# EAGLE library part WE-MCA_7488910235 (library wurth_elektronik_passive_rev16d)
Multilayer Chip Antenna Characteristics SMD Multilayer Chip Antenna Extremely low profile Very light component Power capacity: 5 W max. Omni-directional Operating temperature: –40 °C to +85 °C High gain Applications applications WLAN Home RF (868 MHz) Bluetooth applications GSM 900 ISM 868/2400 <http://katalog.we-online.de/media/images/eisos/RfMCA_pf2.jpg> Details see: http://katalog.we-online.de/en/pbs/WE-MCA? Updated by Dan Xu 2014-07-08 2014 (C) Wurth Elektronik
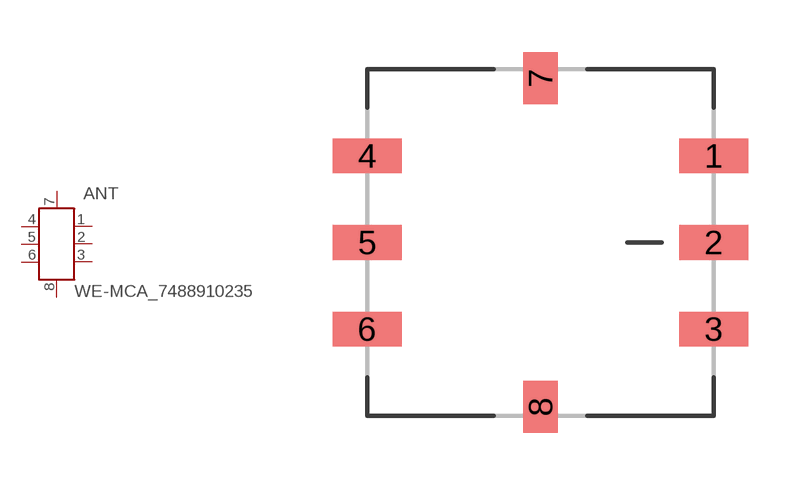
[diagram p17: symbol with the pads of WE-MCA_7488910235; footprint WE-MCA_7488910235]

Designator prefix ANT

## WE-MCA_7488910235_7488910235  [WE-MCA_7488910235]
1  GND  pwr
2  NC  nc
3  GND  pwr
4  GND  pwr
5  NC  nc
6  GND  pwr
7  IN  in
8  OUT  out

## Footprint WE-MCA_7488910235 (pad centres in mm)
Multilayer Chip Antenna WE-MCA
smd 2 x 1: 1 5,2.5; 2 5,0; 3 5,-2.5; 4 -5,2.5; 5 -5,0; 6 -5,-2.5
smd 1 x 1.5: 7 0,4.75; 8 0,-4.75